# EAGLE library part HIP4082IBZ (library HIP4082)
Full Bridge Mosfet Driver
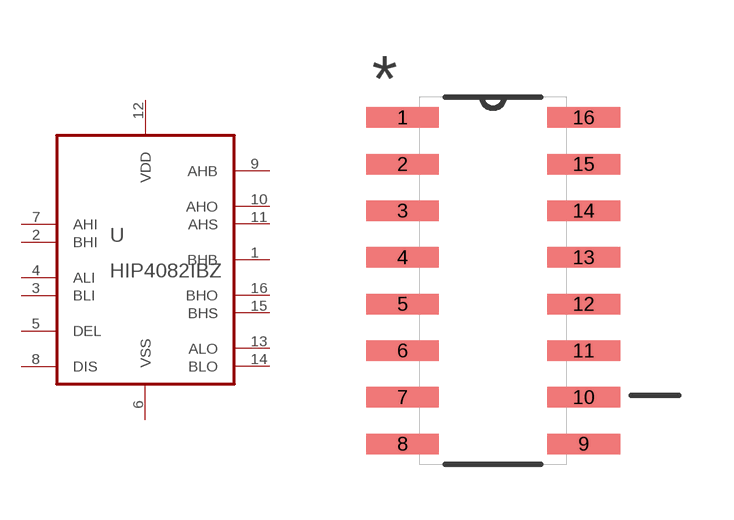
[diagram p0: symbol with the pads of SOIC127P600X175-16N; footprint SOIC127P600X175-16N]

Designator prefix U

## HIP4082IBZ (MPN: HIP4082IBZ; OC_FARNELL: 1561948; OC_NEWARK: 61J5960; PACKAGE: SOIC-16; SUPPLIER: INTERSIL)  [SOIC127P600X175-16N]
1  BHB  in
2  BHI  in
3  BLI  in
4  ALI  in
5  DEL  in
6  VSS  in
7  AHI  in
8  DIS  in
9  AHB  in
10  AHO  out
11  AHS  in
12  VDD  in
13  ALO  out
14  BLO  out
15  BHS  in
16  BHO  out

## Footprint SOIC127P600X175-16N (pad centres in mm)
smd 1.981 x 0.559: 1 -2.464,4.445; 2 -2.464,3.175; 3 -2.464,1.905; 4 -2.464,0.635; 5 -2.464,-0.635; 6 -2.464,-1.905; 7 -2.464,-3.175; 8 -2.464,-4.445; 9 2.464,-4.445; 10 2.464,-3.175; 11 2.464,-1.905; 12 2.464,-0.635; 13 2.464,0.635; 14 2.464,1.905; 15 2.464,3.175; 16 2.464,4.445